# EAGLE library part 623350235321 (library Wuerth_Elektronik_eiCan_Pin_&_Socked_Headers_v1.3)
WR-PHD 1.27mm Dual SMT Socket Header H=2.20mm, Bottom Entry, 50 Pins
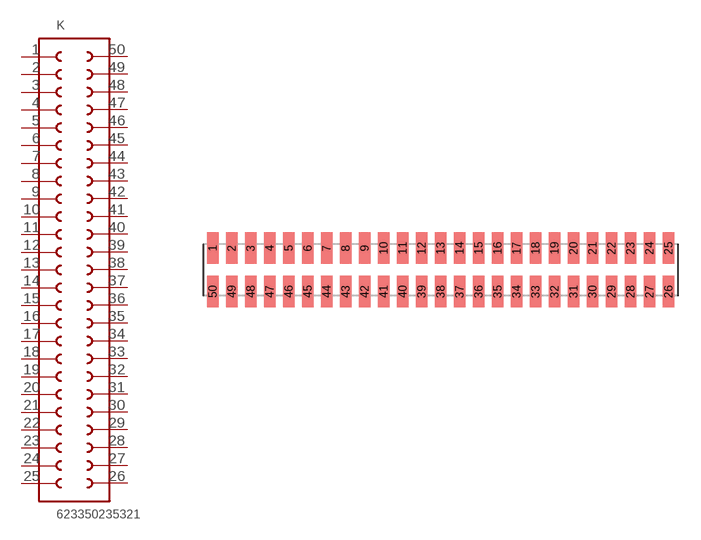
[diagram p352: symbol with the pads of 623350235321; footprint 623350235321]

Designator prefix K

## 623350235321  [623350235321]
1  1  pas
2  2  pas
3  3  pas
4  4  pas
5  5  pas
6  6  pas
7  7  pas
8  8  pas
9  9  pas
10  10  pas
11  11  pas
12  12  pas
13  13  pas
14  14  pas
15  15  pas
16  16  pas
17  17  pas
18  18  pas
19  19  pas
20  20  pas
21  21  pas
22  22  pas
23  23  pas
24  24  pas
25  25  pas
26  26  pas
27  27  pas
28  28  pas
29  29  pas
30  30  pas
31  31  pas
32  32  pas
33  33  pas
34  34  pas
35  35  pas
36  36  pas
37  37  pas
38  38  pas
39  39  pas
40  40  pas
41  41  pas
42  42  pas
43  43  pas
44  44  pas
45  45  pas
46  46  pas
47  47  pas
48  48  pas
49  49  pas
50  50  pas

## Footprint 623350235321 (pad centres in mm)
WR-PHD 1.27mm Dual SMT Socket Header H=2.20mm, Bottom Entry, 50 Pins
smd 0.78 x 2.1: 1 -15.24,1.45; 2 -13.97,1.45; 3 -12.7,1.45; 4 -11.43,1.45; 5 -10.16,1.45; 6 -8.89,1.45; 7 -7.62,1.45; 8 -6.35,1.45; 9 -5.08,1.45; 10 -3.81,1.45; 11 -2.54,1.45; 12 -1.27,1.45; 13 0,1.45; 14 1.27,1.45; 15 2.54,1.45; 16 3.81,1.45; 17 5.08,1.45; 18 6.35,1.45; 19 7.62,1.45; 20 8.89,1.45; 21 10.16,1.45; 22 11.43,1.45; 23 12.7,1.45; 24 13.97,1.45; 25 15.24,1.45; 26 15.24,-1.45; 27 13.97,-1.45; 28 12.7,-1.45; 29 11.43,-1.45; 30 10.16,-1.45; 31 8.89,-1.45; 32 7.62,-1.45; 33 6.35,-1.45; 34 5.08,-1.45; 35 3.81,-1.45; 36 2.54,-1.45; 37 1.27,-1.45; 38 0,-1.45; 39 -1.27,-1.45; 40 -2.54,-1.45; 41 -3.81,-1.45; 42 -5.08,-1.45; 43 -6.35,-1.45; 44 -7.62,-1.45; 45 -8.89,-1.45; 46 -10.16,-1.45; 47 -11.43,-1.45; 48 -12.7,-1.45; 49 -13.97,-1.45; 50 -15.24,-1.45